# Altium footprint library THD.PcbLib: 24 footprints (part 1 of 2)
Each footprint in its own frame and in the unit in brackets; x right, y up, seen from the top. Pads: shape width x height; smd on the part's side, far side on the other; paste and mask are expansions set on the pad; w line width, h text height; cw(c..) or ccw(c..) is an arc to the next point about the centre after c.
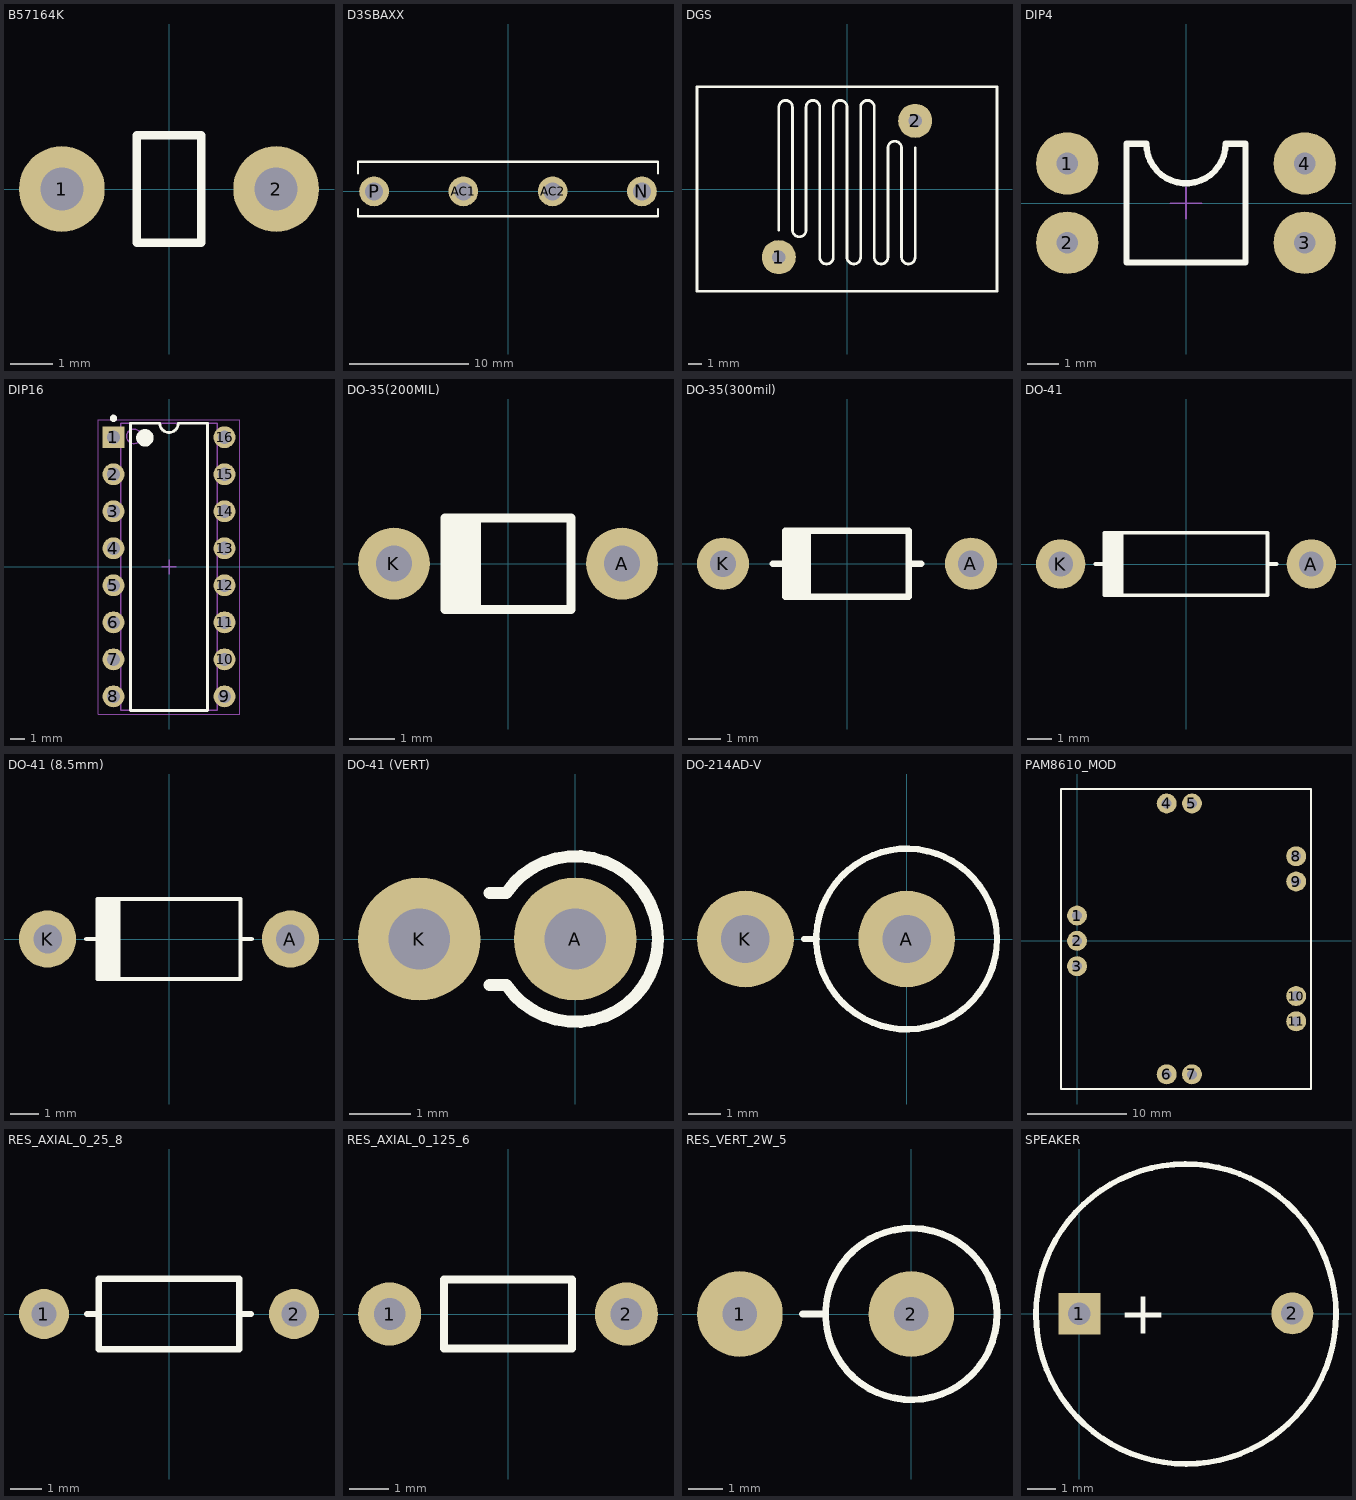
[diagram p0: the footprints below, top view; thin cyan lines are the x and y axes]

## B57164K [mm]
pads (2):
  round 2 hole 1: 1(-2.5,0) 2(2.5,0)
Top Overlay:
  lines w0.2: -0.75,-1.25 -0.75,1.25 0.75,1.25 0.75,-1.25 -0.75,-1.25
3D body "User Library-Kondensator_5mm.step": height 10.5, standoff -2.07, extent -4,-1.25 4,1.26

## D3SBAXX [mm]
pads (4):
  round 2.5 hole 1.5 unplated: AC1(-3.75,0) AC2(3.75,0) N(11.25,0) P(-11.25,0)
Top Overlay:
  lines w0.2: -12.6,-1.5 -12.6,-2.1 12.6,-2.1 12.6,-1.5 ; -12.6,1.5 -12.6,2.5 12.6,2.5 12.6,1.5
3D body "User Library-D3SBAXX.STEP": height 21.3, standoff -11.94, extent -12.65,-2.1 12.65,2.5

## DGS [mm]
pads (2):
  round 2.5 hole 1: 1(-5,-5) 2(5,5)
Top Overlay:
  lines w0.2: -5,-3 -5,6 cw(c-4.5,6) -4,6 -4,-3 ccw(c-3.5,-3) -3,-3 -3,6 cw(c-2.5,6) -2,6 -2,-5 ccw(c-1.5,-5) -1,-5 -1,6 cw(c-0.5,6) 0,6 0,-5 ccw(c0.5,-5) 1,-5 1,6 cw(c1.5,6) 2,6 2,-5 ccw(c2.5,-5) 3,-5 3,3 cw(c3.5,3) 4,3 4,-5 ccw(c4.5,-5) 5,-5 5,3 ; -11,-7.5 -11,7.5 11,7.5 11,-7.5 -11,-7.5

## DIP4 [mm]
pads (4):
  round 2 hole 0.7: 1(-3.81,1.27) 2(-3.81,-1.27) 3(3.81,-1.27) 4(3.81,1.27)
Top Overlay:
  lines w0.2: -1.905,-1.905 -1.905,1.905 -1.27,1.905 ccw(c0,1.905) 1.27,1.905 1.905,1.905 1.905,-1.905 -1.905,-1.905
Mechanical 15:
  lines w0.05: -0.5,0 0.5,0 ; 0,-0.5 0,0.5
3D body "User Library-DIP4-7_62-2_54.step": height 4.3, standoff -2.7, extent -3.94,-2.295 3.94,2.295

## DIP16 [mm] "DIP, 16-Leads, Row Spacing 7.62mm, Pitch 2.54mm, Body 19.3x6.4mm"
height 5.08
pads (16):
  rect 1.5x1.5 hole 0.9: 1(-3.81,8.89)
  round 1.5 hole 0.9: 2(-3.81,6.35) 3(-3.81,3.81) 4(-3.81,1.27) 5(-3.81,-1.27) 6(-3.81,-3.81) 7(-3.81,-6.35) 8(-3.81,-8.89) 9(3.81,-8.89) 10(3.81,-6.35) 11(3.81,-3.81) 12(3.81,-1.27) 13(3.81,1.27) 14(3.81,3.81) 15(3.81,6.35) 16(3.81,8.89)
Top Overlay:
  circle w0.6: c-1.65,8.85 r0.3
  circle w0.25: c-3.81,10.19 r0.125
  lines w0.2: -2.65,-9.85 2.65,-9.85 2.65,9.85 0.635,9.85 cw(c0,9.85) -0.635,9.85 -2.65,9.85 -2.65,-9.85
Mechanical 13:
  circle w0.1: c-2.4,8.95 r0.5
  lines w0.1: -3.3,-9.85 3.3,-9.85 3.3,9.85 -3.3,9.85 -3.3,-9.85
Mechanical 15:
  lines w0.05: -4.85,-10.1 4.85,-10.1 4.85,10.1 -4.85,10.1 -4.85,-10.1
  lines w0.1: -0.5,0 0.5,0 ; 0,-0.5 0,0.5
3D body "User Library-DIP16.STEP": height 4.67, standoff -3.71, extent -3.91,-9.715 3.91,9.715

## DO-35(200MIL) [mm]
pads (2):
  round 1.6 hole 0.8: A(2.54,0) K(-2.54,0)
Top Overlay:
  rectangle: -1.389,-1.032 -0.6,1
  lines w0.2: -2.28,0 -1.905,0 ; 1.905,0 2.28,0 ; -1.4,-1.016 1.4,-1.016 1.4,1.016 -1.4,1.016 -1.4,-1.016
3D body "User Library-DO-35G-20.step": height 1.92, standoff -1.9, extent -2.815,-0.901 2.815,0.901

## DO-35(300mil) [mm]
pads (2):
  round 1.6 hole 0.8: A(3.81,0) K(-3.81,0)
Top Overlay:
  rectangle: -1.9,-1.032 -1.111,1
  lines w0.2: -2.28,0 -1.905,0 ; 1.905,0 2.28,0 ; -1.905,-1.016 -1.905,1.016 1.905,1.016 1.905,-1.016 -1.905,-1.016
3D body "User Library-DO-204AH (DO-35).step": height 2.21, standoff -1.8, extent -4.07,-1.01 4.07,1.01

## DO-41 [mm] "Diode, thru-hole"
height 2.7
pads (2):
  round 2 hole 1: A(5.08,0) K(-5.08,0)
Top Overlay:
  rectangle: -3.297,-1.27 -2.54,1.254
  lines w0.152: -3.683,0 -3.302,0 ; 3.302,0 3.683,0 ; -3.302,-1.27 -3.302,1.27 3.302,1.27 3.302,-1.27 -3.302,-1.27
3D body "DIODE0_4-DEFAULT.STEP": height 2.55, standoff -2.54, extent -5.461,-1.295 5.461,1.27

## DO-41 (8.5mm) [mm] "Diode, thru-hole"
height 2.7
pads (2):
  round 2 hole 1: A(4.25,0) K(-4.25,0)
Top Overlay:
  rectangle: -2.457,-1.378 -1.7,1.4
  lines w0.152: -2.9,0 -2.502,0 ; 2.517,0 2.9,0 ; -2.5,-1.4 -2.5,1.4 2.5,1.4 2.5,-1.4 -2.5,-1.4
3D body "DO-41(8.5mm).STEP": height 2.87, standoff -2.5, extent -4.682,-1.37 4.682,1.37

## DO-41 (VERT) [mm]
pads (2):
  round 2 hole 1 unplated: A(0,0) K(-2.54,0)
Top Overlay:
  lines w0.2: -1.397,-0.749 -1.123,-0.749 ccw(c0,0) -1.123,0.749 -1.397,0.749
3D body "DO-41_VERT.STEP": height 6.64, standoff -1.75, extent -2.933,-1.333 1.334,1.334

## DO-214AD-V [mm]
pads (2):
  round 3 hole 1.5: A(0,0) K(-5,0)
Top Overlay:
  circle w0.2: c0,0 r2.8
  lines w0.2: -3.175,0 -2.794,0
3D body "DO-201AD-V.STEP": height 14.66, standoff -2.5, extent -5.66,-2.8 2.8,2.8

## PAM8610_MOD [mm]
pads (11):
  round 2 hole 1: 1(0,2.54) 2(0,0) 3(0,-2.54) 4(9,13.8) 5(11.54,13.8) 6(8.995,-13.4) 7(11.535,-13.4) 8(22,8.5) 9(22,5.96) 10(22,-5.54) 11(22,-8.08)
Top Overlay:
  lines w0.2: -1.625,-14.875 -1.625,0 -1.625,15.25 8.875,15.25 23.5,15.25 23.5,8.125 23.5,-6.125 23.5,-14.875 9,-14.875 -1.625,-14.875
3D body: height 7, standoff 4, extent -1.625,-14.875 23.5,15.25

## RES_AXIAL_0_25_8 [mm]
pads (2):
  round 1.6 hole 0.8: 1(-4,0) 2(4,0)
Top Overlay:
  lines w0.2: -2.625,0 -2.25,0 ; 2.25,0 2.625,0 ; -2.25,-1.125 -2.25,1.125 2.25,1.125 2.25,-1.125 -2.25,-1.125
3D body "R-Axial-0_25W-8_00.STEP": height 2.7, standoff -2.5, extent -4.3,-1.2 4.3,1.2

## RES_AXIAL_0_125_6 [mm]
pads (2):
  round 1.6 hole 0.8: 1(-3,0) 2(3,0)
Top Overlay:
  lines w0.2: -1.625,-0.875 1.625,-0.875 1.625,0.875 -1.625,0.875 -1.625,-0.875
3D body "R-Axial-0_125W-6_00.STEP": height 1.9, standoff -2, extent -3.25,-0.9 3.25,0.9

## RES_VERT_2W_5 [mm]
pads (2):
  round 2.5 hole 1: 1(-5,0) 2(0,0)
Top Overlay:
  circle w0.2: c0,0 r2.5
  lines w0.2: -3.175,0 -2.54,0
3D body "User Library-RESAD500W80L1600D500_2W.STEP": height 21.3, standoff -2.1, extent -5.4,-2.506 2.5,2.506

## SPEAKER [mm]
pads (2):
  rect 1.5x1.5 hole 0.8: 1(0,0)
  round 1.5 hole 0.8: 2(7.62,0.013)
Top Overlay:
  lines w0.203: 7.724,3.67 ccw(c3.816,-0.008) 7.76,3.632
  text "+" at 1.41,-0.711 h1.52
3D body "User Library-Buzzer WST-1203UX.step": height 4.5, standoff -9.65, extent -2.215,-6 13.239,6